# EAGLE library part USB-232-INTERFACE (library FiftyOneFunParts)
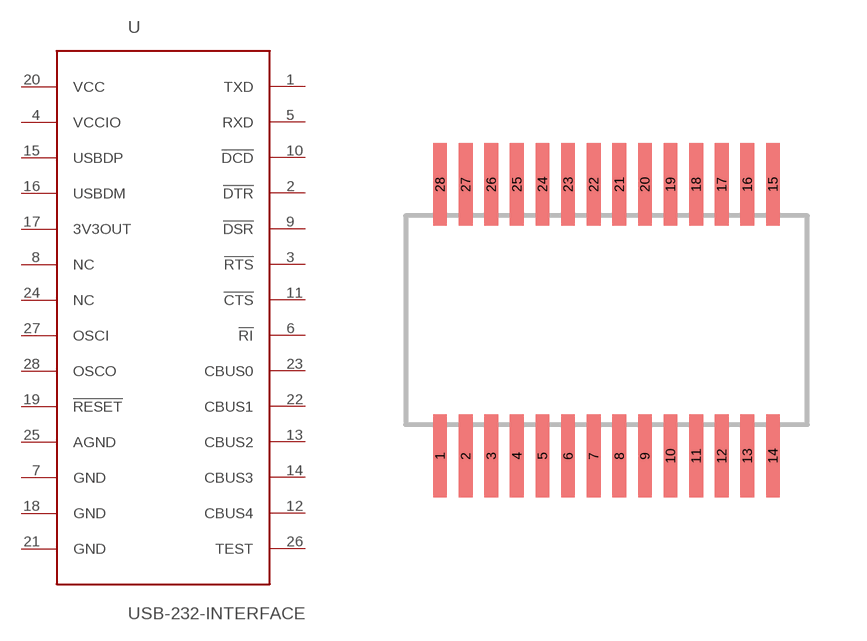
[diagram p1: symbol with the pads of USB-232-INTERFACE; footprint USB-232-INTERFACE]

Designator prefix -

## USB-232-INTERFACE  [USB-232-INTERFACE]
1  TXD
2  !DTR
3  !RTS
4  VCCIO
5  RXD
6  !RI
7  GND
8  NC
9  !DSR
10  !DCD
11  !CTS
12  CBUS4
13  CBUS2
14  CBUS3
15  USBDP
16  USBDM
17  3V3OUT
18  GND
19  !RESET
20  VCC
21  GND
22  CBUS1
23  CBUS0
24  NC
25  AGND
26  TEST
27  OSCI
28  OSCO

## Footprint USB-232-INTERFACE (pad centres in mm)
smd 0.35 x 2.1: 1 -4.225,-3.45; 2 -3.575,-3.45; 3 -2.925,-3.45; 4 -2.275,-3.45; 5 -1.625,-3.45; 6 -0.975,-3.45; 7 -0.325,-3.45; 8 0.325,-3.45; 9 0.975,-3.45; 10 1.625,-3.45; 11 2.275,-3.45; 12 2.925,-3.45; 13 3.575,-3.45; 14 4.225,-3.45; 15 4.225,3.45; 16 3.575,3.45; 17 2.925,3.45; 18 2.275,3.45; 19 1.625,3.45; 20 0.975,3.45; 21 0.325,3.45; 22 -0.325,3.45; 23 -0.975,3.45; 24 -1.625,3.45; 25 -2.275,3.45; 26 -2.925,3.45; 27 -3.575,3.45; 28 -4.225,3.45